# EAGLE library part QBA-07+ (library QBA-07+)
Power Splitter/Combiner, 2 Way-90 50 340 to 680 MHz-1 Source: Datasheet <https://www.minicircuits.com/pdfs/QBA-07.pdf>
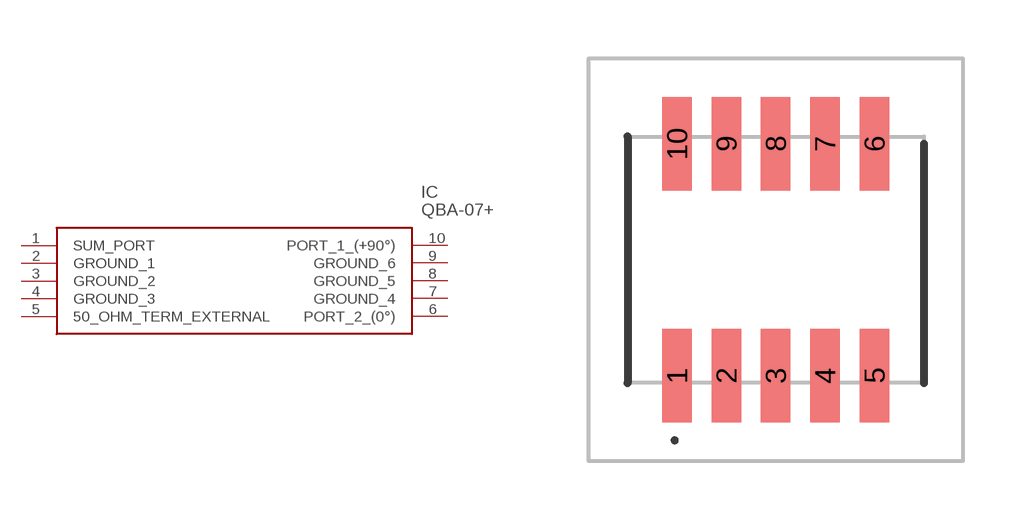
[diagram p0: symbol with the pads of QBA07; footprint QBA07]

Designator prefix IC

## QBA-07+ (Description: Power Splitter/Combiner, 2 Way-90 50 340 to 680 MHz-1; Height: 1.78mm; Manufacturer_Name: Mini-Circuits; Manufacturer_Part_Number: QBA-07+)  [QBA07]
1  SUM_PORT
2  GROUND_1
3  GROUND_2
4  GROUND_3
5  50_OHM_TERM_EXTERNAL
6  PORT_2_(0°)
7  GROUND_4
8  GROUND_5
9  GROUND_6
10  PORT_1_(+90°)

## Footprint QBA07 (pad centres in mm)
SM1L
smd 0.76 x 2.41: 1 -2.54,-2.985; 2 -1.27,-2.985; 3 0,-2.985; 4 1.27,-2.985; 5 2.54,-2.985; 6 2.54,2.985; 7 1.27,2.985; 8 0,2.985; 9 -1.27,2.985; 10 -2.54,2.985